# Altium integrated library SparkFun-IC-Microcontroller.Library.IntLib: 56 symbols (part 2 of 2)
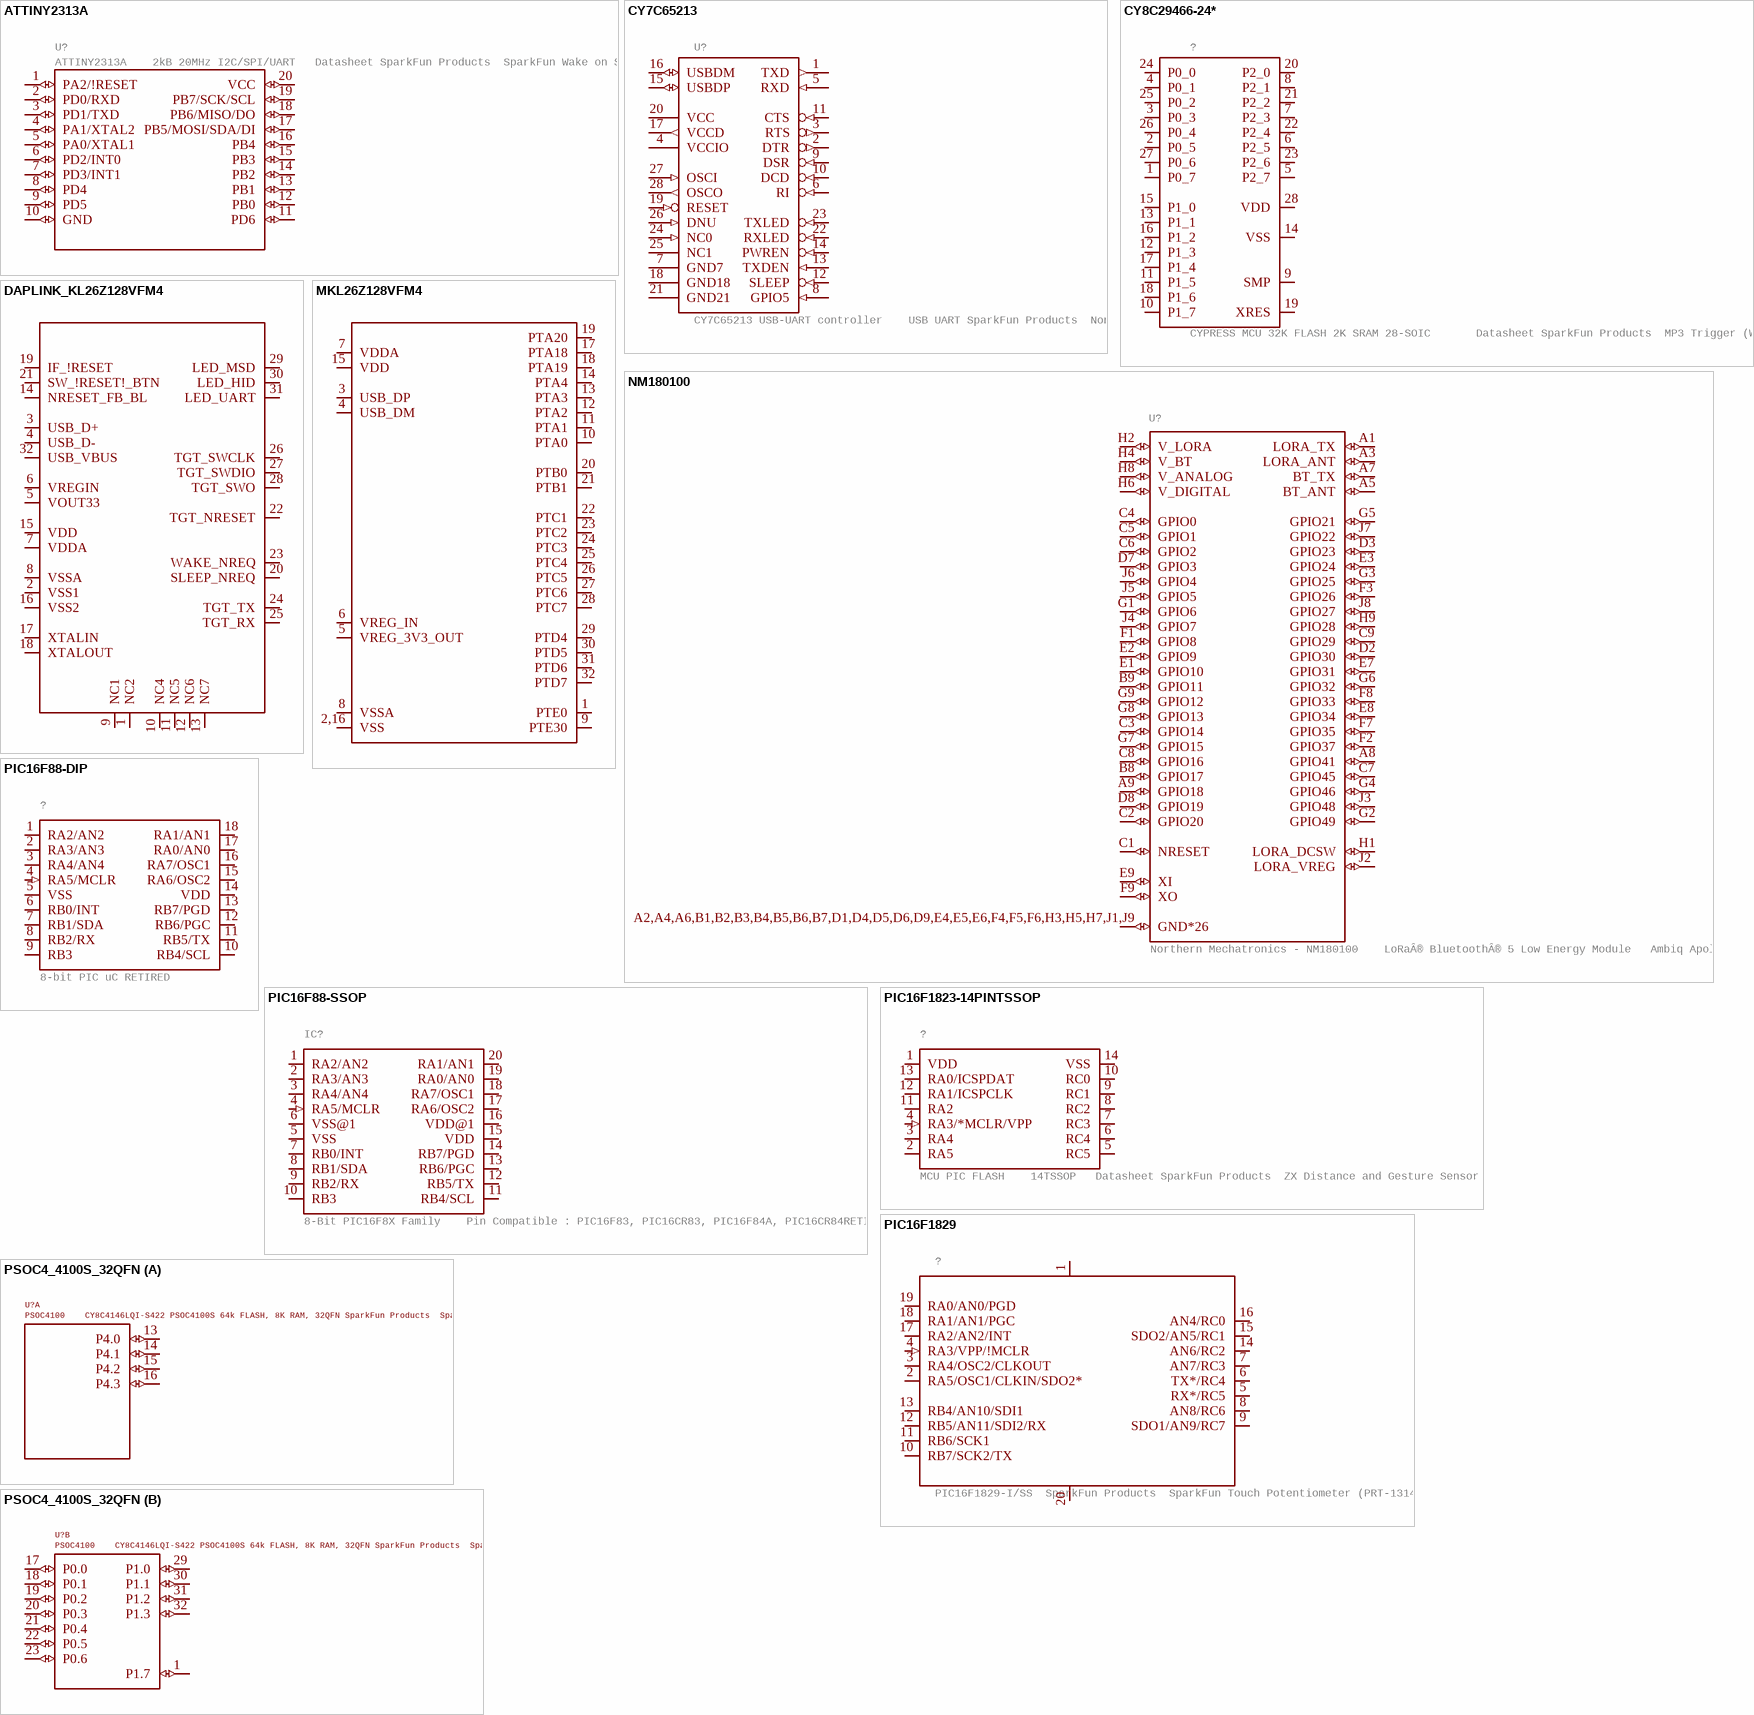
[diagram p11: symbols ATTINY2313A to PSOC4_4100S_32QFN]

## ATTINY2313A
designator U?, comment ATTINY2313A    2kB 20MHz I2C/SPI/UART   Datasheet SparkFun Products  SparkFun Wake on Shake (SEN-11447)
GateName_1: G$1; PROD_ID: IC-11305; SymbolName_1: ATTINY2313A; LibraryName: SparkFun-IC-Microcontroller; DeviceSetName: ATTINY2313A; Package: SOP20W
footprint SOP20W
pins: 1 PA2/!RESET (io), 2 PD0/RXD (io), 3 PD1/TXD (io), 4 PA1/XTAL2 (io), 5 PA0/XTAL1 (io), 6 PD2/INT0 (io), 7 PD3/INT1 (io), 8 PD4 (io), 9 PD5 (io), 10 GND (io), 11 PD6 (io), 12 PB0 (io), 13 PB1 (io), 14 PB2 (io), 15 PB3 (io), 16 PB4 (io), 17 PB5/MOSI/SDA/DI (io), 18 PB6/MISO/DO (io), 19 PB7/SCK/SCL (io), 20 VCC (io)

## CY7C65213
designator U?, comment CY7C65213 USB-UART controller    USB UART SparkFun Products  None
GateName_1: G$1; PROD_ID: IC-12487; SymbolName_1: CY7C65213; LibraryName: SparkFun-IC-Microcontroller; DeviceSetName: CY7C65213; Package: SSOP28DB
footprint SSOP28DB
pins: 1 TXD (out), 2 DTR (out), 3 RTS (out), 4 VCCIO (power), 5 RXD (in), 6 RI (in), 7 GND7 (power), 8 GPIO5 (in), 9 DSR (in), 10 DCD (in), 11 CTS (in), 12 SLEEP (in), 13 TXDEN (in), 14 PWREN (in), 15 USBDP (io), 16 USBDM (io), 17 VCCD (out), 18 GND18 (power), 19 RESET (in), 20 VCC (power), 21 GND21 (power), 22 RXLED (in), 23 TXLED (in), 24 NC0 (in), 25 NC1 (power), 26 DNU (in), 27 OSCI (in), 28 OSCO (out)

## CY8C29466-24*
designator ?, comment CYPRESS MCU 32K FLASH 2K SRAM 28-SOIC       Datasheet SparkFun Products  MP3 Trigger (WIG-13720)
GateName_1: G$1; SymbolName_1: CY8C29466; DeviceSetName: CY8C29466-24*; PROD_ID: IC-08972; LibraryName: SparkFun-IC-Microcontroller; Package: SOIC-28
footprint SOIC-28
pins: 1 P0_7 (io), 2 P0_5 (io), 3 P0_3 (io), 4 P0_1 (io), 5 P2_7 (io), 6 P2_5 (io), 7 P2_3 (io), 8 P2_1 (io), 9 SMP (io), 10 P1_7 (io), 11 P1_5 (io), 12 P1_3 (io), 13 P1_1 (io), 14 VSS (power), 15 P1_0 (io), 16 P1_2 (io), 17 P1_4 (io), 18 P1_6 (io), 19 XRES (io), 20 P2_0 (io), 21 P2_2 (io), 22 P2_4 (io), 23 P2_6 (io), 24 P0_0 (io), 25 P0_2 (io), 26 P0_4 (io), 27 P0_6 (io), 28 VDD (power)

## DAPLINK_KL26Z128VFM4
designator U?, comment Unfinished! This is an interface MCU that runs DAPLink to enable advanced features for the target MCU  (value not drawn)
GateName_1: G$1; SymbolName_1: DAPLINK_MKL26Z; DeviceSetName: DAPLINK_KL26Z128VFM4; PROD_ID: IC-15168; LibraryName: SparkFun-IC-Microcontroller; Package: QFN-32-NOPAD
footprint QFN-32-NOPAD
pins: 1 NC2 (io), 2 VSS1 (io), 3 USB_D+ (io), 4 USB_D- (io), 5 VOUT33 (io), 6 VREGIN (io), 7 VDDA (io), 8 VSSA (io), 9 NC1 (io), 10 NC4 (io), 11 NC5 (io), 12 NC6 (io), 13 NC7 (io), 14 NRESET_FB_BL (io), 15 VDD (io), 16 VSS2 (io), 17 XTALIN (io), 18 XTALOUT (io), 19 IF_!RESET (io), 20 SLEEP_NREQ (io), 21 SW_!RESET!_BTN (io), 22 TGT_NRESET (io), 23 WAKE_NREQ (io), 24 TGT_TX (io), 25 TGT_RX (io), 26 TGT_SWCLK (io), 27 TGT_SWDIO (io), 28 TGT_SWO (io), 29 LED_MSD (io), 30 LED_HID (io), 31 LED_UART (io), 32 USB_VBUS (io)

## MKL26Z128VFM4
designator ?
GateName_1: G$1; SymbolName_1: MKL26Z128VFM4; PROD_ID: IC-15168; LibraryName: SparkFun-IC-Microcontroller; DeviceSetName: MKL26Z128VFM4; Package: QFN-32-NOPAD
footprint QFN-32-NOPAD
pins: 1 PTE0 (io), 2,16 VSS (io), 3 USB_DP (io), 4 USB_DM (io), 5 VREG_3V3_OUT (io), 6 VREG_IN (io), 7 VDDA (io), 8 VSSA (io), 9 PTE30 (io), 10 PTA0 (io), 11 PTA1 (io), 12 PTA2 (io), 13 PTA3 (io), 14 PTA4 (io), 15 VDD (io), 17 PTA18 (io), 18 PTA19 (io), 19 PTA20 (io), 20 PTB0 (io), 21 PTB1 (io), 22 PTC1 (io), 23 PTC2 (io), 24 PTC3 (io), 25 PTC4 (io), 26 PTC5 (io), 27 PTC6 (io), 28 PTC7 (io), 29 PTD4 (io), 30 PTD5 (io), 31 PTD6 (io), 32 PTD7 (io)

## NM180100
designator U?, comment Northern Mechatronics - NM180100    LoRaÂ® BluetoothÂ® 5 Low Energy Module   Ambiq Apollo3 ARMÂ® CortexÂ® M4 with FPU Up to 96MHz   Semtech SX1262 Long Range Low Power LoRaÂ® Transceiver +22dBm, global frequency coverage  Datasheet  SparkFun Products  LoRa Thing Plus - expLoRaBLE (WRL-17506)
GateName_1: G$1; PROD_ID: IC-15464; SymbolName_1: NM180100; LibraryName: SparkFun-IC-Microcontroller; DeviceSetName: NM180100; Package: LGA81
footprint LGA81
pins: A1 LORA_TX (io), A2,A4,A6,B1,B2,B3,B4,B5,B6,B7,D1,D4,D5,D6,D9,E4,E5,E6,F4,F5,F6,H3,H5,H7,J1,J9 GND*26 (io), A3 LORA_ANT (io), A5 BT_ANT (io), A7 BT_TX (io), A8 GPIO41 (io), A9 GPIO18 (io), B8 GPIO17 (io), B9 GPIO11 (io), C1 NRESET (io), C2 GPIO20 (io), C3 GPIO14 (io), C4 GPIO0 (io), C5 GPIO1 (io), C6 GPIO2 (io), C7 GPIO45 (io), C8 GPIO16 (io), C9 GPIO29 (io), D2 GPIO30 (io), D3 GPIO23 (io), D7 GPIO3 (io), D8 GPIO19 (io), E1 GPIO10 (io), E2 GPIO9 (io), E3 GPIO24 (io), E7 GPIO31 (io), E8 GPIO34 (io), E9 XI (io), F1 GPIO8 (io), F2 GPIO37 (io), F3 GPIO26 (io), F7 GPIO35 (io), F8 GPIO33 (io), F9 XO (io), G1 GPIO6 (io), G2 GPIO49 (io), G3 GPIO25 (io), G4 GPIO46 (io), G5 GPIO21 (io), G6 GPIO32 (io), G7 GPIO15 (io), G8 GPIO13 (io), G9 GPIO12 (io), H1 LORA_DCSW (io), H2 V_LORA (io), H4 V_BT (io), H6 V_DIGITAL (io), H8 V_ANALOG (io), H9 GPIO28 (io), J2 LORA_VREG (io), J3 GPIO48 (io), J4 GPIO7 (io), J5 GPIO5 (io), J6 GPIO4 (io), J7 GPIO22 (io), J8 GPIO27 (io)

## PIC16F88-DIP
designator ?, comment 8-bit PIC uC RETIRED
GateName_1: G$1; SymbolName_1: PIC16F88-DIP; PROD_ID: IC-08463; LibraryName: SparkFun-IC-Microcontroller; DeviceSetName: PIC16F88-DIP; Package: DIP18
footprint DIP18
pins: 1 RA2/AN2 (io), 2 RA3/AN3 (io), 3 RA4/AN4 (io), 4 RA5/MCLR (in), 5 VSS (power), 6 RB0/INT (io), 7 RB1/SDA (io), 8 RB2/RX (io), 9 RB3 (io), 10 RB4/SCL (io), 11 RB5/TX (io), 12 RB6/PGC (io), 13 RB7/PGD (io), 14 VDD (power), 15 RA6/OSC2 (io), 16 RA7/OSC1 (io), 17 RA0/AN0 (io), 18 RA1/AN1 (io)

## PIC16F88-SSOP
designator IC?, comment 8-Bit PIC16F8X Family    Pin Compatible : PIC16F83, PIC16CR83, PIC16F84A, PIC16CR84RETIRED
GateName_1: G$1; SymbolName_1: PIC16F88-SSOP; LibraryName: SparkFun-IC-Microcontroller; DeviceSetName: PIC16F88-SSOP; Package: SSOP20
footprint SSOP20
pins: 1 RA2/AN2 (io), 2 RA3/AN3 (io), 3 RA4/AN4 (io), 4 RA5/MCLR (in), 5 VSS (power), 6 VSS@1 (power), 7 RB0/INT (io), 8 RB1/SDA (io), 9 RB2/RX (io), 10 RB3 (io), 11 RB4/SCL (io), 12 RB5/TX (io), 13 RB6/PGC (io), 14 RB7/PGD (io), 15 VDD (power), 16 VDD@1 (power), 17 RA6/OSC2 (io), 18 RA7/OSC1 (io), 19 RA0/AN0 (io), 20 RA1/AN1 (io)

## PIC16F1823-14PINTSSOP
designator ?, comment MCU PIC FLASH    14TSSOP   Datasheet SparkFun Products  ZX Distance and Gesture Sensor (SEN-12780)    Short timer
GateName_1: G$1; SymbolName_1: PIC16F1823-14PIN; DeviceName: TSSOP; PROD_ID: IC-11992; LibraryName: SparkFun-IC-Microcontroller; DeviceSetName: PIC16F1823-14PIN; Package: TSSOP14
footprint TSSOP14
pins: 1 VDD (power), 2 RA5 (io), 3 RA4 (io), 4 RA3/*MCLR/VPP (in), 5 RC5 (io), 6 RC4 (io), 7 RC3 (io), 8 RC2 (io), 9 RC1 (io), 10 RC0 (io), 11 RA2 (io), 12 RA1/ICSPCLK (io), 13 RA0/ICSPDAT (io), 14 VSS (power)

## PIC16F1829
designator ?, comment PIC16F1829-I/SS  SparkFun Products  SparkFun Touch Potentiometer (PRT-13144)
GateName_1: 1; PROD_ID: IC-12357; SymbolName_1: PIC16F1829; LibraryName: SparkFun-IC-Microcontroller; DeviceSetName: PIC16F1829; Package: SSOP20
footprint SSOP20
pins: 1 VDD (power), 2 RA5/OSC1/CLKIN/SDO2* (io), 3 RA4/OSC2/CLKOUT (io), 4 RA3/VPP/!MCLR (in), 5 RX*/RC5 (io), 6 TX*/RC4 (io), 7 AN7/RC3 (io), 8 AN8/RC6 (io), 9 SDO1/AN9/RC7 (io), 10 RB7/SCK2/TX (io), 11 RB6/SCK1 (io), 12 RB5/AN11/SDI2/RX (io), 13 RB4/AN10/SDI1 (io), 14 AN6/RC2 (io), 15 SDO2/AN5/RC1 (io), 16 AN4/RC0 (io), 17 RA2/AN2/INT (io), 18 RA1/AN1/PGC (io), 19 RA0/AN0/PGD (io), 20 VSS (power)

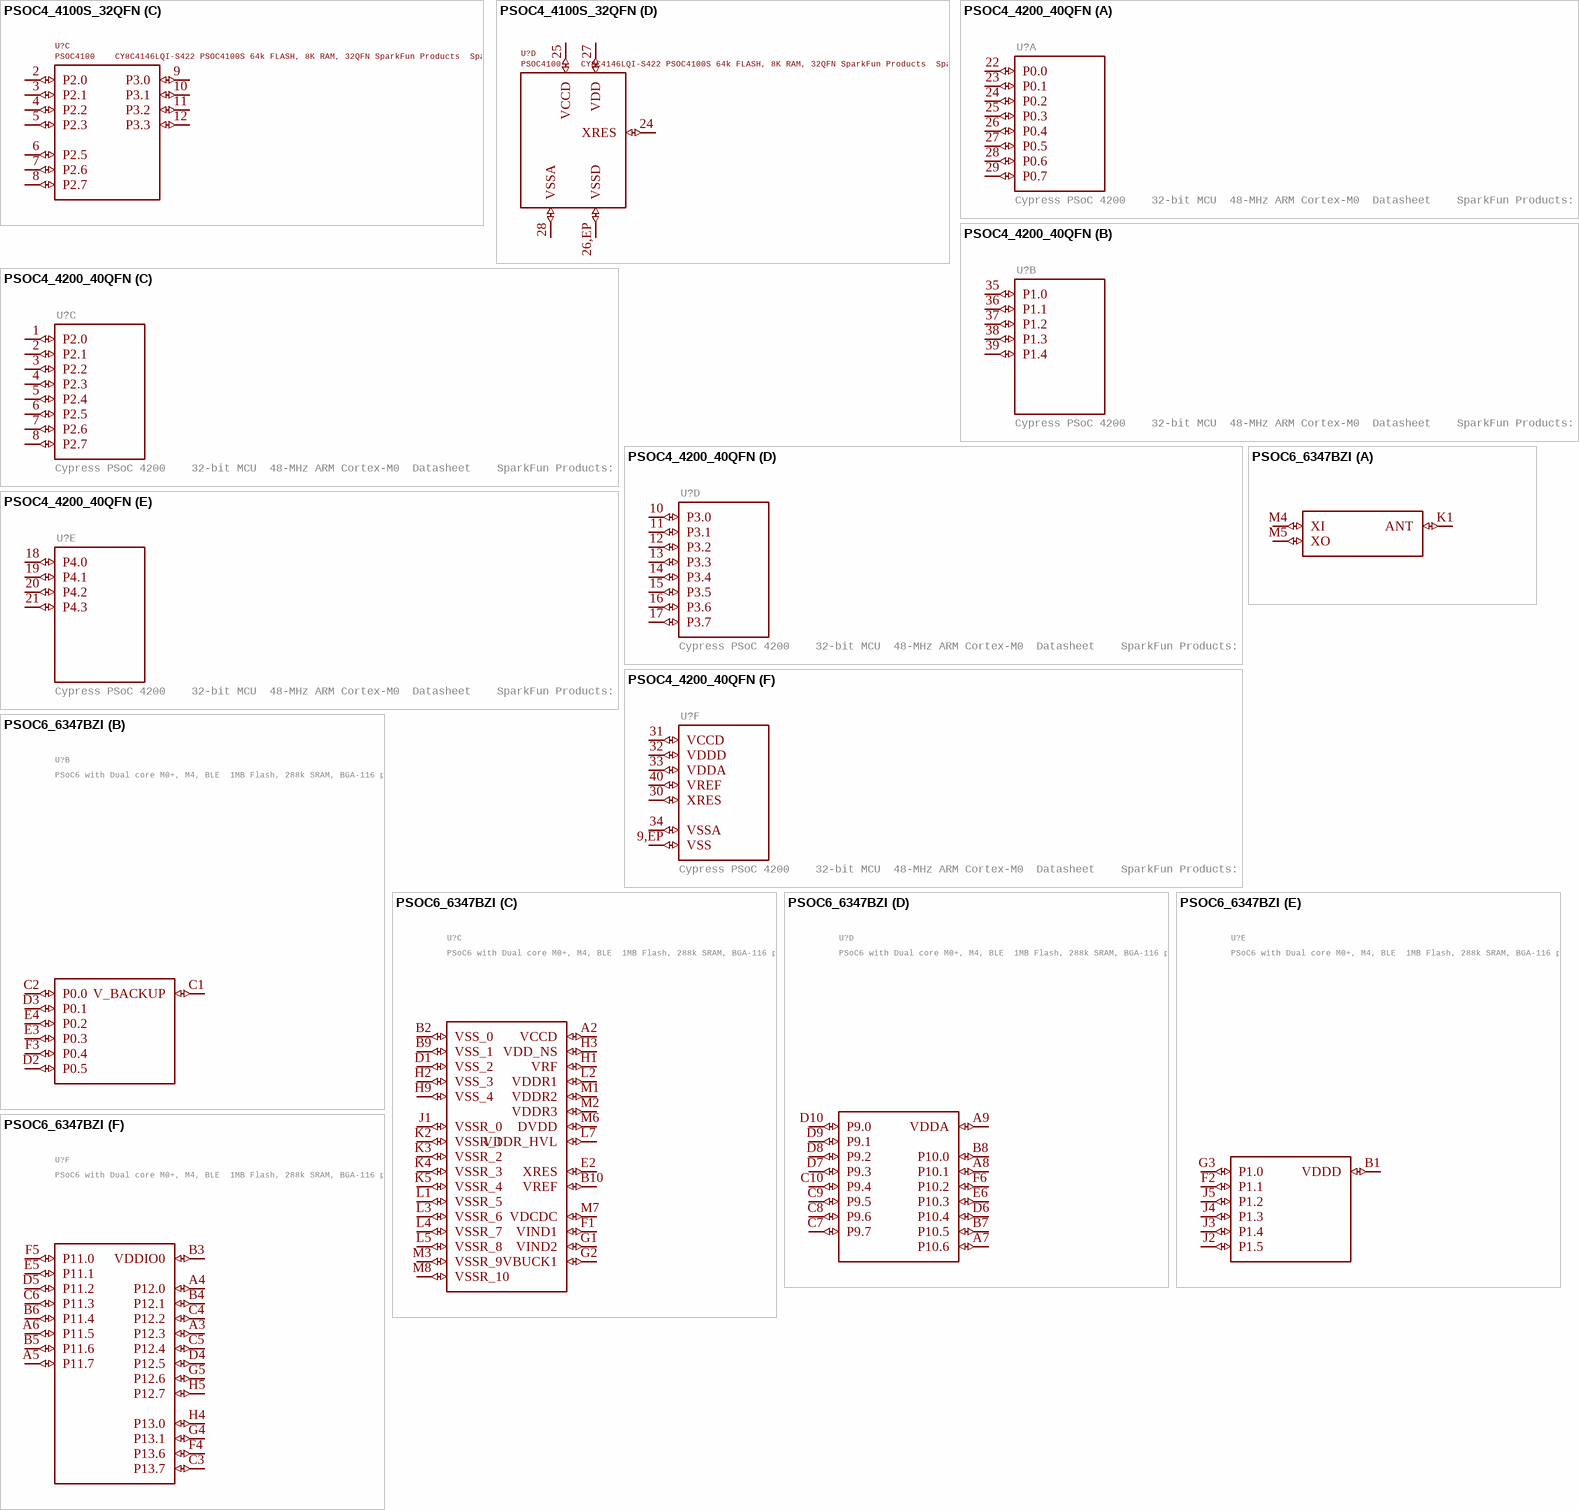
[diagram p7: symbols PSOC4_4100S_32QFN to PSOC6_6347BZI]

## PSOC4_4100S_32QFN
designator U?, comment PSOC4100    CY8C4146LQI-S422 PSOC4100S 64k FLASH, 8K RAM, 32QFN SparkFun Products  SparkFun Serial Controlled Motor Driver
GateName_1: G2; SymbolName_1: PSOC_4100S_32QFN_PORT_4; GateName_2: G0; SymbolName_2: PSOC_4100S_32QFN_PORTS_0_AND_1; GateName_3: G3; SymbolName_3: PSOC_4100S_32QFN_PORTS_2_AND_3; GateName_4: G4; SymbolName_4: PSOC_4100S_QFN32_POWER; DeviceSetName: PSOC4_4100S_32QFN; PROD_ID: IC-13286; LibraryName: SparkFun-IC-Microcontroller; Package: QFN-32
footprint QFN-32
part A pins: 13 P4.0 (io), 14 P4.1 (io), 15 P4.2 (io), 16 P4.3 (io)
part B pins: 1 P1.7 (io), 17 P0.0 (io), 18 P0.1 (io), 19 P0.2 (io), 20 P0.3 (io), 21 P0.4 (io), 22 P0.5 (io), 23 P0.6 (io), 29 P1.0 (io), 30 P1.1 (io), 31 P1.2 (io), 32 P1.3 (io)
part C pins: 2 P2.0 (io), 3 P2.1 (io), 4 P2.2 (io), 5 P2.3 (io), 6 P2.5 (io), 7 P2.6 (io), 8 P2.7 (io), 9 P3.0 (io), 10 P3.1 (io), 11 P3.2 (io), 12 P3.3 (io)
part D pins: 24 XRES (io), 25 VCCD (io), 26,EP VSSD (io), 27 VDD (io), 28 VSSA (io)

## PSOC4_4200_40QFN
designator U?, comment Cypress PSoC 4200    32-bit MCU  48-MHz ARM Cortex-M0  Datasheet    SparkFun Products: SparkFun serial Controlled Motor Driver
GateName_1: G1; SymbolName_1: CY8C4245LQI_40QFN_PORT0; GateName_2: G2; SymbolName_2: CY8C4245LQI_40QFN_PORT1; GateName_3: G3; SymbolName_3: CY8C4245LQI_40QFN_PORT2; GateName_4: G4; SymbolName_4: CY8C4245LQI_40QFN_PORT3; GateName_5: G5; SymbolName_5: CY8C4245LQI_40QFN_PORT4; GateName_6: G6; SymbolName_6: CY8C4245LQI_40QFN_POWER; DeviceSetName: PSOC4_4200_40QFN; PROD_ID: IC-13292; LibraryName: SparkFun-IC-Microcontroller; Package: QFN-40
footprint QFN-40
part A pins: 22 P0.0 (io), 23 P0.1 (io), 24 P0.2 (io), 25 P0.3 (io), 26 P0.4 (io), 27 P0.5 (io), 28 P0.6 (io), 29 P0.7 (io)
part B pins: 35 P1.0 (io), 36 P1.1 (io), 37 P1.2 (io), 38 P1.3 (io), 39 P1.4 (io)
part C pins: 1 P2.0 (io), 2 P2.1 (io), 3 P2.2 (io), 4 P2.3 (io), 5 P2.4 (io), 6 P2.5 (io), 7 P2.6 (io), 8 P2.7 (io)
part D pins: 10 P3.0 (io), 11 P3.1 (io), 12 P3.2 (io), 13 P3.3 (io), 14 P3.4 (io), 15 P3.5 (io), 16 P3.6 (io), 17 P3.7 (io)
part E pins: 18 P4.0 (io), 19 P4.1 (io), 20 P4.2 (io), 21 P4.3 (io)
part F pins: 9,EP VSS (io), 30 XRES (io), 31 VCCD (io), 32 VDDD (io), 33 VDDA (io), 34 VSSA (io), 40 VREF (io)

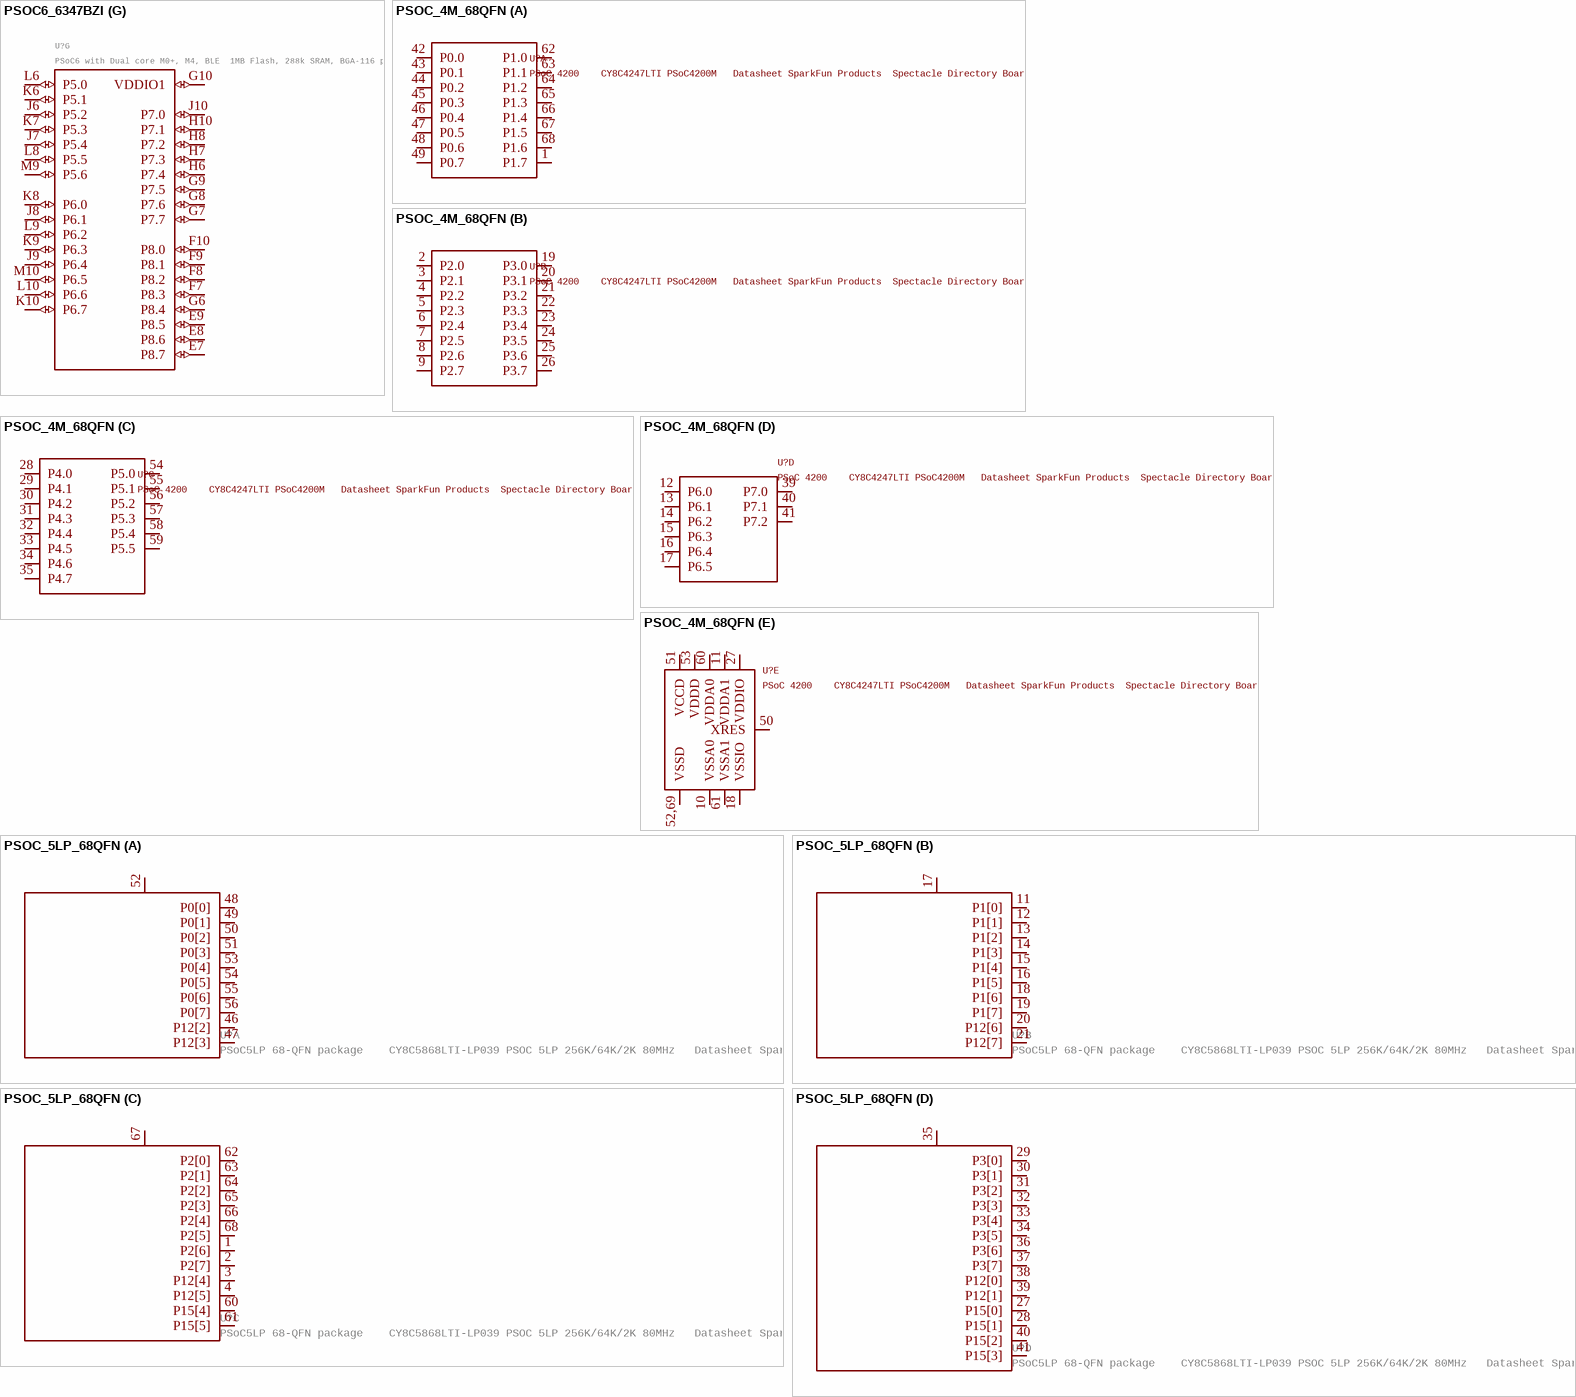
[diagram p8: symbols PSOC6_6347BZI to PSOC_5LP_68QFN]

## PSOC6_6347BZI
designator U?, comment PSoC6 with Dual core M0+, M4, BLE  1MB Flash, 288k SRAM, BGA-116 pkg
GateName_1: G1; SymbolName_1: CY8C6347BZI_ASST; GateName_2: G2; SymbolName_2: CY8C6347BZI_P0_P1; GateName_3: G3; SymbolName_3: CY8C6347BZI_SUPPLY; GateName_4: G5; SymbolName_4: CY8C6347BZI_VDDA; GateName_5: G6; SymbolName_5: CY8C6347BZI_VDDD; GateName_6: G7; SymbolName_6: CY8C6347BZI_VDDIO0; GateName_7: G8; SymbolName_7: CY8C6347BZI_VDDIO1; DeviceSetName: PSOC6_6347BZI; LibraryName: SparkFun-IC-Microcontroller; Package: BGA-116
footprint BGA-116
part A pins: K1 ANT (io), M4 XI (io), M5 XO (io)
part B pins: C1 V_BACKUP (io), C2 P0.0 (io), D2 P0.5 (io), D3 P0.1 (io), E3 P0.3 (io), E4 P0.2 (io), F3 P0.4 (io)
part C pins: A2 VCCD (io), B2 VSS_0 (io), B9 VSS_1 (io), B10 VREF (io), D1 VSS_2 (io), E2 XRES (io), F1 VIND1 (io), G1 VIND2 (io), G2 VBUCK1 (io), H1 VRF (io), H2 VSS_3 (io), H3 VDD_NS (io), H9 VSS_4 (io), J1 VSSR_0 (io), K2 VSSR_1 (io), K3 VSSR_2 (io), K4 VSSR_3 (io), K5 VSSR_4 (io), L1 VSSR_5 (io), L2 VDDR1 (io), L3 VSSR_6 (io), L4 VSSR_7 (io), L5 VSSR_8 (io), L7 VDDR_HVL (io), M1 VDDR2 (io), M2 VDDR3 (io), M3 VSSR_9 (io), M6 DVDD (io), M7 VDCDC (io), M8 VSSR_10 (io)
part D pins: A7 P10.6 (io), A8 P10.1 (io), A9 VDDA (io), B7 P10.5 (io), B8 P10.0 (io), C7 P9.7 (io), C8 P9.6 (io), C9 P9.5 (io), C10 P9.4 (io), D6 P10.4 (io), D7 P9.3 (io), D8 P9.2 (io), D9 P9.1 (io), D10 P9.0 (io), E6 P10.3 (io), F6 P10.2 (io)
part E pins: B1 VDDD (io), F2 P1.1 (io), G3 P1.0 (io), J2 P1.5 (io), J3 P1.4 (io), J4 P1.3 (io), J5 P1.2 (io)
part F pins: A3 P12.3 (io), A4 P12.0 (io), A5 P11.7 (io), A6 P11.5 (io), B3 VDDIO0 (io), B4 P12.1 (io), B5 P11.6 (io), B6 P11.4 (io), C3 P13.7 (io), C4 P12.2 (io), C5 P12.4 (io), C6 P11.3 (io), D4 P12.5 (io), D5 P11.2 (io), E5 P11.1 (io), F4 P13.6 (io), F5 P11.0 (io), G4 P13.1 (io), G5 P12.6 (io), H4 P13.0 (io), H5 P12.7 (io)
part G pins: E7 P8.7 (io), E8 P8.6 (io), E9 P8.5 (io), F7 P8.3 (io), F8 P8.2 (io), F9 P8.1 (io), F10 P8.0 (io), G6 P8.4 (io), G7 P7.7 (io), G8 P7.6 (io), G9 P7.5 (io), G10 VDDIO1 (io), H6 P7.4 (io), H7 P7.3 (io), H8 P7.2 (io), H10 P7.1 (io), J6 P5.2 (io), J7 P5.4 (io), J8 P6.1 (io), J9 P6.4 (io), J10 P7.0 (io), K6 P5.1 (io), K7 P5.3 (io), K8 P6.0 (io), K9 P6.3 (io), K10 P6.7 (io), L6 P5.0 (io), L8 P5.5 (io), L9 P6.2 (io), L10 P6.6 (io), M9 P5.6 (io), M10 P6.5 (io)

## PSOC_4M_68QFN
designator U?, comment PSoC 4200    CY8C4247LTI PSoC4200M   Datasheet SparkFun Products  Spectacle Directory Board ()  ProSoC Mini ()    Prototype in process!  Do keep!
GateName_1: G1; SymbolName_1: CY8C42M-68QFN_P0_P1; GateName_2: G2; SymbolName_2: CY8C42M-68QFN_P2_P3; GateName_3: G3; SymbolName_3: CY8C42M-68QFN_P4_P5; GateName_4: G4; SymbolName_4: CY8C42M-68QFN_P6_P7; GateName_5: G5; SymbolName_5: CY8C42M-68QFN_POWER; DeviceSetName: PSOC_4M_68QFN; PROD_ID: IC-13259; LibraryName: SparkFun-IC-Microcontroller; Package: QFN-68
footprint QFN-68
part A pins: 1 P1.7 (io), 42 P0.0 (io), 43 P0.1 (io), 44 P0.2 (io), 45 P0.3 (io), 46 P0.4 (io), 47 P0.5 (io), 48 P0.6 (io), 49 P0.7 (io), 62 P1.0 (io), 63 P1.1 (io), 64 P1.2 (io), 65 P1.3 (io), 66 P1.4 (io), 67 P1.5 (io), 68 P1.6 (io)
part B pins: 2 P2.0 (io), 3 P2.1 (io), 4 P2.2 (io), 5 P2.3 (io), 6 P2.4 (io), 7 P2.5 (io), 8 P2.6 (io), 9 P2.7 (io), 19 P3.0 (io), 20 P3.1 (io), 21 P3.2 (io), 22 P3.3 (io), 23 P3.4 (io), 24 P3.5 (io), 25 P3.6 (io), 26 P3.7 (io)
part C pins: 28 P4.0 (io), 29 P4.1 (io), 30 P4.2 (io), 31 P4.3 (io), 32 P4.4 (io), 33 P4.5 (io), 34 P4.6 (io), 35 P4.7 (io), 54 P5.0 (io), 55 P5.1 (io), 56 P5.2 (io), 57 P5.3 (io), 58 P5.4 (io), 59 P5.5 (io)
part D pins: 12 P6.0 (io), 13 P6.1 (io), 14 P6.2 (io), 15 P6.3 (io), 16 P6.4 (io), 17 P6.5 (io), 39 P7.0 (io), 40 P7.1 (io), 41 P7.2 (io)
part E pins: 10 VSSA0 (io), 11 VDDA1 (io), 18 VSSIO (io), 27 VDDIO (io), 50 XRES (io), 51 VCCD (io), 52,69 VSSD (io), 53 VDDD (io), 60 VDDA0 (io), 61 VSSA1 (io)

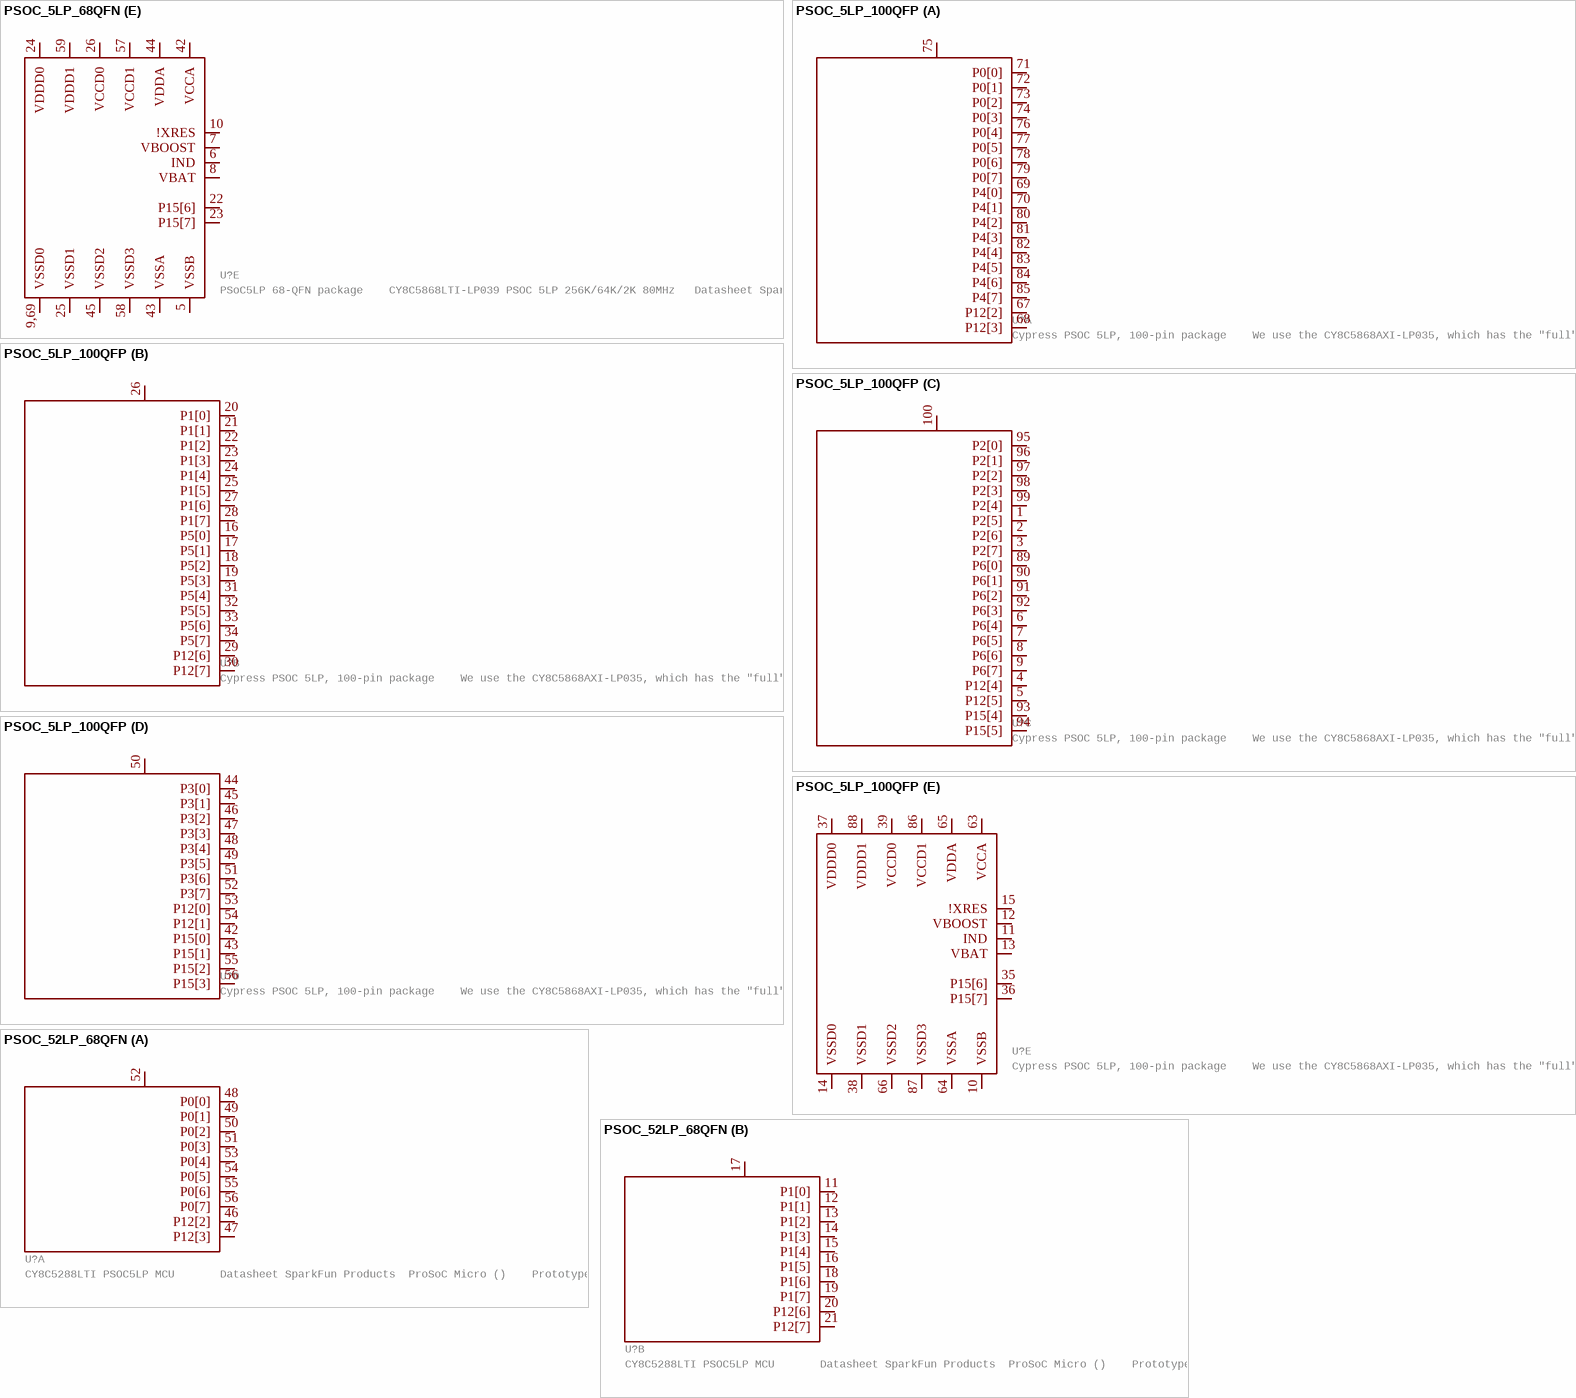
[diagram p9: symbols PSOC_5LP_68QFN to PSOC_52LP_68QFN]

## PSOC_5LP_68QFN
designator U?, comment PSoC5LP 68-QFN package    CY8C5868LTI-LP039 PSOC 5LP 256K/64K/2K 80MHz   Datasheet SparkFun Products  FreeSoC2 Development Board - PSoC5LP (DEV-13229) -- Involved with change to new unposted revision
GateName_1: G1; SymbolName_1: CY8C58LP_68QFN_VDDIO0; GateName_2: G2; SymbolName_2: CY8C58LP_68QFN_VDDIO1; GateName_3: G3; SymbolName_3: CY8C58LP_68QFN_VDDIO2; GateName_4: G4; SymbolName_4: CY8C58LP_68QFN_VDDIO3; GateName_5: G5; SymbolName_5: CY8C58LP_68QFN_VGLOBAL; DeviceSetName: PSOC_5LP_68QFN; PROD_ID: IC-12391; LibraryName: SparkFun-IC-Microcontroller; Package: QFN-68
footprint QFN-68
part A pins: 46 P12[2] (io), 47 P12[3] (io), 48 P0[0] (io), 49 P0[1] (io), 50 P0[2] (io), 51 P0[3] (io), 52 VDDIO0 (io), 53 P0[4] (io), 54 P0[5] (io), 55 P0[6] (io), 56 P0[7] (io)
part B pins: 11 P1[0] (io), 12 P1[1] (io), 13 P1[2] (io), 14 P1[3] (io), 15 P1[4] (io), 16 P1[5] (io), 17 VDDIO1 (io), 18 P1[6] (io), 19 P1[7] (io), 20 P12[6] (io), 21 P12[7] (io)
part C pins: 1 P2[6] (io), 2 P2[7] (io), 3 P12[4] (io), 4 P12[5] (io), 60 P15[4] (io), 61 P15[5] (io), 62 P2[0] (io), 63 P2[1] (io), 64 P2[2] (io), 65 P2[3] (io), 66 P2[4] (io), 67 VDDIO2 (io), 68 P2[5] (io)
part D pins: 27 P15[0] (io), 28 P15[1] (io), 29 P3[0] (io), 30 P3[1] (io), 31 P3[2] (io), 32 P3[3] (io), 33 P3[4] (io), 34 P3[5] (io), 35 VDDIO3 (io), 36 P3[6] (io), 37 P3[7] (io), 38 P12[0] (io), 39 P12[1] (io), 40 P15[2] (io), 41 P15[3] (io)
part E pins: 5 VSSB (io), 6 IND (io), 7 VBOOST (io), 8 VBAT (io), 9,69 VSSD0 (io), 10 !XRES (io), 22 P15[6] (io), 23 P15[7] (io), 24 VDDD0 (io), 25 VSSD1 (io), 26 VCCD0 (io), 42 VCCA (io), 43 VSSA (io), 44 VDDA (io), 45 VSSD2 (io), 57 VCCD1 (io), 58 VSSD3 (io), 59 VDDD1 (io)

## PSOC_5LP_100QFP
designator U?, comment Cypress PSOC 5LP, 100-pin package    We use the CY8C5868AXI-LP035, which has the "full" feature set: - 256k flash - 64k SRAM - 2k EEPROM  - CAN - Full-speed USB - 67MHz operation   Datasheet SparkFun Products  FreeSoC2 Development Board - PSoC5LP (DEV-13229) -- Involved with change to new unposted revision
GateName_1: G1; SymbolName_1: CY8C58LP_100QFP_VDDIO0; GateName_2: G2; SymbolName_2: CY8C58LP_100QFP_VDDIO1; GateName_3: G3; SymbolName_3: CY8C58LP_100QFP_VDDIO2; GateName_4: G4; SymbolName_4: CY8C58LP_100QFP_VDDIO3; GateName_5: G5; SymbolName_5: CY8C58LP_100QFP_VGLOBAL; DeviceSetName: PSOC_5LP_100QFP; PROD_ID: IC-12190; LibraryName: SparkFun-IC-Microcontroller; Package: TQFP-100-14X14MM
footprint TQFP-100-14X14MM
part A pins: 67 P12[2] (io), 68 P12[3] (io), 69 P4[0] (io), 70 P4[1] (io), 71 P0[0] (io), 72 P0[1] (io), 73 P0[2] (io), 74 P0[3] (io), 75 VDDIO0 (io), 76 P0[4] (io), 77 P0[5] (io), 78 P0[6] (io), 79 P0[7] (io), 80 P4[2] (io), 81 P4[3] (io), 82 P4[4] (io), 83 P4[5] (io), 84 P4[6] (io), 85 P4[7] (io)
part B pins: 16 P5[0] (io), 17 P5[1] (io), 18 P5[2] (io), 19 P5[3] (io), 20 P1[0] (io), 21 P1[1] (io), 22 P1[2] (io), 23 P1[3] (io), 24 P1[4] (io), 25 P1[5] (io), 26 VDDIO1 (io), 27 P1[6] (io), 28 P1[7] (io), 29 P12[6] (io), 30 P12[7] (io), 31 P5[4] (io), 32 P5[5] (io), 33 P5[6] (io), 34 P5[7] (io)
part C pins: 1 P2[5] (io), 2 P2[6] (io), 3 P2[7] (io), 4 P12[4] (io), 5 P12[5] (io), 6 P6[4] (io), 7 P6[5] (io), 8 P6[6] (io), 9 P6[7] (io), 89 P6[0] (io), 90 P6[1] (io), 91 P6[2] (io), 92 P6[3] (io), 93 P15[4] (io), 94 P15[5] (io), 95 P2[0] (io), 96 P2[1] (io), 97 P2[2] (io), 98 P2[3] (io), 99 P2[4] (io), 100 VDDIO2 (io)
part D pins: 42 P15[0] (io), 43 P15[1] (io), 44 P3[0] (io), 45 P3[1] (io), 46 P3[2] (io), 47 P3[3] (io), 48 P3[4] (io), 49 P3[5] (io), 50 VDDIO3 (io), 51 P3[6] (io), 52 P3[7] (io), 53 P12[0] (io), 54 P12[1] (io), 55 P15[2] (io), 56 P15[3] (io)
part E pins: 10 VSSB (io), 11 IND (io), 12 VBOOST (io), 13 VBAT (io), 14 VSSD0 (io), 15 !XRES (io), 35 P15[6] (io), 36 P15[7] (io), 37 VDDD0 (io), 38 VSSD1 (io), 39 VCCD0 (io), 63 VCCA (io), 64 VSSA (io), 65 VDDA (io), 66 VSSD2 (io), 86 VCCD1 (io), 87 VSSD3 (io), 88 VDDD1 (io)

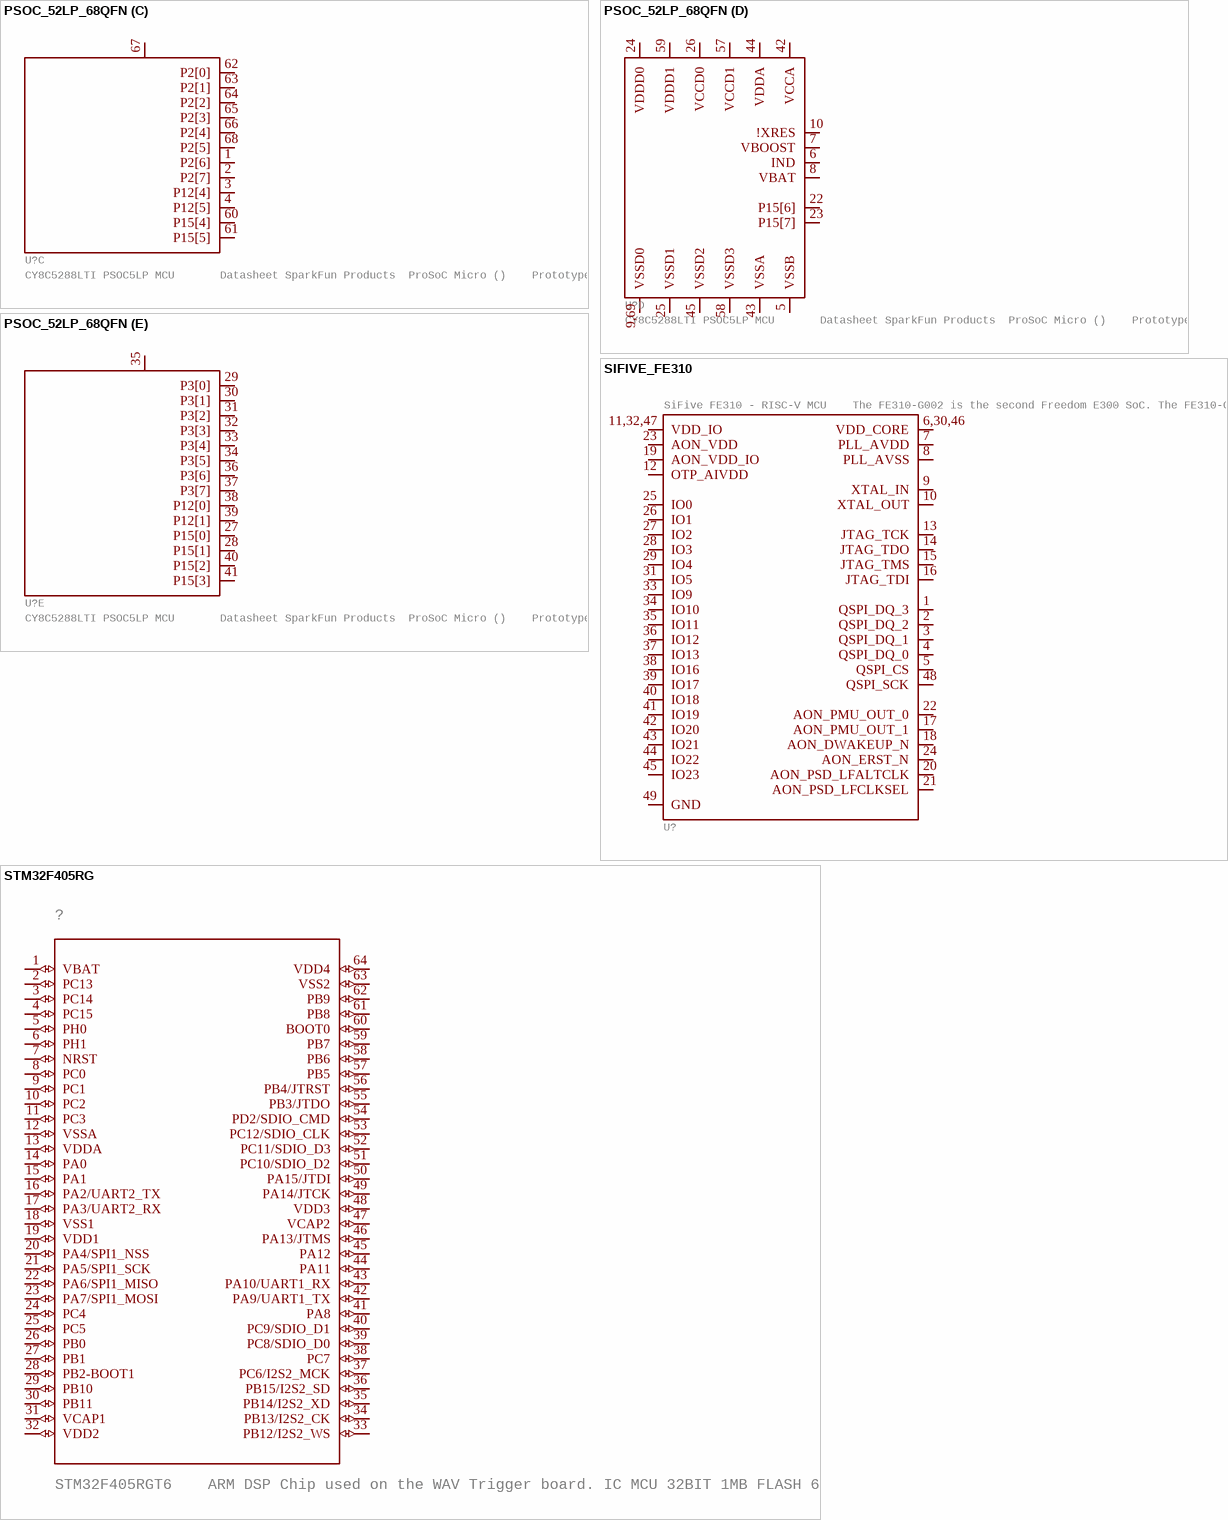
[diagram p10: symbols PSOC_52LP_68QFN to STM32F405RG]

## PSOC_52LP_68QFN
designator U?, comment CY8C5288LTI PSOC5LP MCU       Datasheet SparkFun Products  ProSoC Micro ()    Prototype in process - do keep!
GateName_1: G1; SymbolName_1: CY8C52LP_68QFN_VDDIO0; GateName_2: G2; SymbolName_2: CY8C52LP_68QFN_VDDIO1; GateName_3: G3; SymbolName_3: CY8C52LP_68QFN_VDDIO2; GateName_4: G5; SymbolName_4: CY8C52LP_68QFN_VGLOBAL; GateName_5: G4; SymbolName_5: CY8C52LP_68QFN_VDDIO3; DeviceSetName: PSOC_52LP_68QFN; PROD_ID: IC-13261; LibraryName: SparkFun-IC-Microcontroller; Package: QFN-68
footprint QFN-68
part A pins: 46 P12[2] (io), 47 P12[3] (io), 48 P0[0] (io), 49 P0[1] (io), 50 P0[2] (io), 51 P0[3] (io), 52 VDDIO0 (io), 53 P0[4] (io), 54 P0[5] (io), 55 P0[6] (io), 56 P0[7] (io)
part B pins: 11 P1[0] (io), 12 P1[1] (io), 13 P1[2] (io), 14 P1[3] (io), 15 P1[4] (io), 16 P1[5] (io), 17 VDDIO1 (io), 18 P1[6] (io), 19 P1[7] (io), 20 P12[6] (io), 21 P12[7] (io)
part C pins: 1 P2[6] (io), 2 P2[7] (io), 3 P12[4] (io), 4 P12[5] (io), 60 P15[4] (io), 61 P15[5] (io), 62 P2[0] (io), 63 P2[1] (io), 64 P2[2] (io), 65 P2[3] (io), 66 P2[4] (io), 67 VDDIO2 (io), 68 P2[5] (io)
part D pins: 5 VSSB (io), 6 IND (io), 7 VBOOST (io), 8 VBAT (io), 9,69 VSSD0 (io), 10 !XRES (io), 22 P15[6] (io), 23 P15[7] (io), 24 VDDD0 (io), 25 VSSD1 (io), 26 VCCD0 (io), 42 VCCA (io), 43 VSSA (io), 44 VDDA (io), 45 VSSD2 (io), 57 VCCD1 (io), 58 VSSD3 (io), 59 VDDD1 (io)
part E pins: 27 P15[0] (io), 28 P15[1] (io), 29 P3[0] (io), 30 P3[1] (io), 31 P3[2] (io), 32 P3[3] (io), 33 P3[4] (io), 34 P3[5] (io), 35 VDDIO3 (io), 36 P3[6] (io), 37 P3[7] (io), 38 P12[0] (io), 39 P12[1] (io), 40 P15[2] (io), 41 P15[3] (io)

## SIFIVE_FE310
designator U?, comment SiFive FE310 - RISC-V MCU    The FE310-G002 is the second Freedom E300 SoC. The FE310-G002 is built around the E31 Core Complex instantiated in the Freedom E300 platform.   SparkFun Products: [PRODUCT 1]
GateName_1: G$1; DeviceSetName: SIFIVE_FE310; PROD_ID: IC-14494; SymbolName_1: FE310; LibraryName: SparkFun-IC-Microcontroller; Package: QFN-48-.4MMPITCH
footprint QFN-48-.4MMPITCH
pins: 1 QSPI_DQ_3 (io), 2 QSPI_DQ_2 (io), 3 QSPI_DQ_1 (io), 4 QSPI_DQ_0 (io), 5 QSPI_CS (io), 6,30,46 VDD_CORE (io), 7 PLL_AVDD (io), 8 PLL_AVSS (io), 9 XTAL_IN (io), 10 XTAL_OUT (io), 11,32,47 VDD_IO (io), 12 OTP_AIVDD (io), 13 JTAG_TCK (io), 14 JTAG_TDO (io), 15 JTAG_TMS (io), 16 JTAG_TDI (io), 17 AON_PMU_OUT_1 (io), 18 AON_DWAKEUP_N (io), 19 AON_VDD_IO (io), 20 AON_PSD_LFALTCLK (io), 21 AON_PSD_LFCLKSEL (io), 22 AON_PMU_OUT_0 (io), 23 AON_VDD (io), 24 AON_ERST_N (io), 25 IO0 (io), 26 IO1 (io), 27 IO2 (io), 28 IO3 (io), 29 IO4 (io), 31 IO5 (io), 33 IO9 (io), 34 IO10 (io), 35 IO11 (io), 36 IO12 (io), 37 IO13 (io), 38 IO16 (io), 39 IO17 (io), 40 IO18 (io), 41 IO19 (io), 42 IO20 (io), 43 IO21 (io), 44 IO22 (io), 45 IO23 (io), 48 QSPI_SCK (io), 49 GND (io)

## STM32F405RG
designator ?, comment STM32F405RGT6    ARM DSP Chip used on the WAV Trigger board. IC MCU 32BIT 1MB FLASH 64LQFP   Datasheet SparkFun Products  WAV Trigger (WIG-13660)
GateName_1: G$1; PROD_ID: IC-11709; SymbolName_1: STM32F405RG; LibraryName: SparkFun-IC-Microcontroller; DeviceSetName: STM32F405RG; Package: TQFP64
footprint TQFP64
pins: 1 VBAT (io), 2 PC13 (io), 3 PC14 (io), 4 PC15 (io), 5 PH0 (io), 6 PH1 (io), 7 NRST (io), 8 PC0 (io), 9 PC1 (io), 10 PC2 (io), 11 PC3 (io), 12 VSSA (io), 13 VDDA (io), 14 PA0 (io), 15 PA1 (io), 16 PA2/UART2_TX (io), 17 PA3/UART2_RX (io), 18 VSS1 (io), 19 VDD1 (io), 20 PA4/SPI1_NSS (io), 21 PA5/SPI1_SCK (io), 22 PA6/SPI1_MISO (io), 23 PA7/SPI1_MOSI (io), 24 PC4 (io), 25 PC5 (io), 26 PB0 (io), 27 PB1 (io), 28 PB2-BOOT1 (io), 29 PB10 (io), 30 PB11 (io), 31 VCAP1 (io), 32 VDD2 (io), 33 PB12/I2S2_WS (io), 34 PB13/I2S2_CK (io), 35 PB14/I2S2_XD (io), 36 PB15/I2S2_SD (io), 37 PC6/I2S2_MCK (io), 38 PC7 (io), 39 PC8/SDIO_D0 (io), 40 PC9/SDIO_D1 (io), 41 PA8 (io), 42 PA9/UART1_TX (io), 43 PA10/UART1_RX (io), 44 PA11 (io), 45 PA12 (io), 46 PA13/JTMS (io), 47 VCAP2 (io), 48 VDD3 (io), 49 PA14/JTCK (io), 50 PA15/JTDI (io), 51 PC10/SDIO_D2 (io), 52 PC11/SDIO_D3 (io), 53 PC12/SDIO_CLK (io), 54 PD2/SDIO_CMD (io), 55 PB3/JTDO (io), 56 PB4/JTRST (io), 57 PB5 (io), 58 PB6 (io), 59 PB7 (io), 60 BOOT0 (io), 61 PB8 (io), 62 PB9 (io), 63 VSS2 (io), 64 VDD4 (io)